# Altium footprint library ZXLD383ET5TA.PcbLib: 3 footprints
Each footprint in its own frame and in the unit in brackets; x right, y up, seen from the top. Pads: shape width x height; smd on the part's side, far side on the other; paste and mask are expansions set on the pad; w line width, h text height; cw(c..) or ccw(c..) is an arc to the next point about the centre after c.
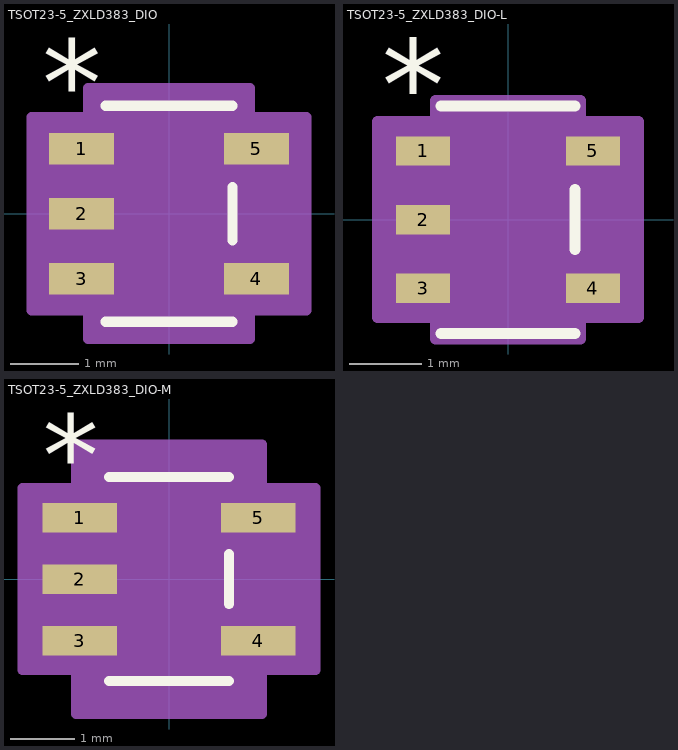
[diagram p0: the footprints below, top view; thin cyan lines are the x and y axes]

## TSOT23-5_ZXLD383_DIO [mil]
pads (5):
  rect 37.5x18 smd paste+0 mask+0: 1(-50.25,37.4) 2(-50.25,0) 3(-50.25,-37.4) 4(50.25,-37.4) 5(50.25,37.4)
Top Overlay:
  lines w6: -36.5,-62 36.5,-62 ; -36.5,62 36.5,62 ; 36.5,-15.3 36.5,15.3
  text "*" at -72.75,50.4 h50
Mechanical 13:
  lines w0: -12,57 ccw(c0,57) 12,57
  lines w1: -55,-46.4 -55,-28.4 -31.5,-28.4 -31.5,-46.4 -55,-46.4 ; -55,-9 -55,9 -31.5,9 -31.5,-9 -55,-9 ; -55,28.4 -55,46.4 -31.5,46.4 -31.5,28.4 -55,28.4 ; -31.5,-57 31.5,-57 31.5,57 -31.5,57 -31.5,-57 ; 31.5,-46.4 31.5,-28.4 55,-28.4 55,-46.4 31.5,-46.4 ; 31.5,28.4 31.5,46.4 55,46.4 55,28.4 31.5,28.4
  text "*" at -34,7.4 h50
Mechanical 15:
  region: 46.5,-72 -46.5,-72 -46.5,-55.4 -79,-55.4 -79,55.4 -46.5,55.4 -46.5,72 46.5,72 46.5,55.4 79,55.4 79,-55.4 46.5,-55.4
  lines w6: -79,-55.4 -46.5,-55.4 -46.5,-72 46.5,-72 46.5,-55.4 79,-55.4 79,55.4 46.5,55.4 46.5,72 -46.5,72 -46.5,55.4 -79,55.4 -79,-55.4
3D body "TSOT23-5_ZXLD383_DIO.step": height 39.09, standoff 0, extent -55,-57.01 55,57.01

## TSOT23-5_ZXLD383_DIO-L [mil]
pads (5):
  rect 29.5x16 smd paste+0 mask+0: 1(-46.25,37.4) 2(-46.25,0) 3(-46.25,-37.4) 4(46.25,-37.4) 5(46.25,37.4)
Top Overlay:
  lines w6: -36.5,-62 36.5,-62 ; -36.5,62 36.5,62 ; 36.5,-16.3 36.5,16.3
  text "*" at -68.75,48.4 h50
Mechanical 13:
  lines w0: -12,57 ccw(c0,57) 12,57
  lines w1: -55,-46.4 -55,-28.4 -31.5,-28.4 -31.5,-46.4 -55,-46.4 ; -55,-9 -55,9 -31.5,9 -31.5,-9 -55,-9 ; -55,28.4 -55,46.4 -31.5,46.4 -31.5,28.4 -55,28.4 ; -31.5,-57 31.5,-57 31.5,57 -31.5,57 -31.5,-57 ; 31.5,-46.4 31.5,-28.4 55,-28.4 55,-46.4 31.5,-46.4 ; 31.5,28.4 31.5,46.4 55,46.4 55,28.4 31.5,28.4
  text "*" at -34,5.4 h50
Mechanical 15:
  region: 39.5,-65 -39.5,-65 -39.5,-53.4 -71,-53.4 -71,53.4 -39.5,53.4 -39.5,65 39.5,65 39.5,53.4 71,53.4 71,-53.4 39.5,-53.4
  lines w6: -71,-53.4 -39.5,-53.4 -39.5,-65 39.5,-65 39.5,-53.4 71,-53.4 71,53.4 39.5,53.4 39.5,65 -39.5,65 -39.5,53.4 -71,53.4 -71,-53.4
3D body "TSOT23-5_ZXLD383_DIO.step": height 39.09, standoff 0, extent -55,-57.01 55,57.01

## TSOT23-5_ZXLD383_DIO-M [mil]
pads (5):
  rect 45.5x18 smd paste+0 mask+0: 1(-54.25,37.4) 2(-54.25,0) 3(-54.25,-37.4) 4(54.25,-37.4) 5(54.25,37.4)
Top Overlay:
  lines w6: -36.5,-62 36.5,-62 ; -36.5,62 36.5,62 ; 36.5,-15.3 36.5,15.3
  text "*" at -76.75,50.4 h50
Mechanical 13:
  lines w0: -12,57 ccw(c0,57) 12,57
  lines w1: -55,-46.4 -55,-28.4 -31.5,-28.4 -31.5,-46.4 -55,-46.4 ; -55,-9 -55,9 -31.5,9 -31.5,-9 -55,-9 ; -55,28.4 -55,46.4 -31.5,46.4 -31.5,28.4 -55,28.4 ; -31.5,-57 31.5,-57 31.5,57 -31.5,57 -31.5,-57 ; 31.5,-46.4 31.5,-28.4 55,-28.4 55,-46.4 31.5,-46.4 ; 31.5,28.4 31.5,46.4 55,46.4 55,28.4 31.5,28.4
  text "*" at -34,7.4 h50
Mechanical 15:
  region: 56.5,-82 -56.5,-82 -56.5,-55.4 -89,-55.4 -89,55.4 -56.5,55.4 -56.5,82 56.5,82 56.5,55.4 89,55.4 89,-55.4 56.5,-55.4
  lines w6: -89,-55.4 -56.5,-55.4 -56.5,-82 56.5,-82 56.5,-55.4 89,-55.4 89,55.4 56.5,55.4 56.5,82 -56.5,82 -56.5,55.4 -89,55.4 -89,-55.4
3D body "TSOT23-5_ZXLD383_DIO.step": height 39.09, standoff 0, extent -55,-57.01 55,57.01